# Altium footprint library 653 0xx 117 322.PcbLib: 9 footprints
Each footprint in its own frame and in the unit in brackets; x right, y up, seen from the top. Pads: shape width x height; smd on the part's side, far side on the other; paste and mask are expansions set on the pad; w line width, h text height; cw(c..) or ccw(c..) is an arc to the next point about the centre after c.
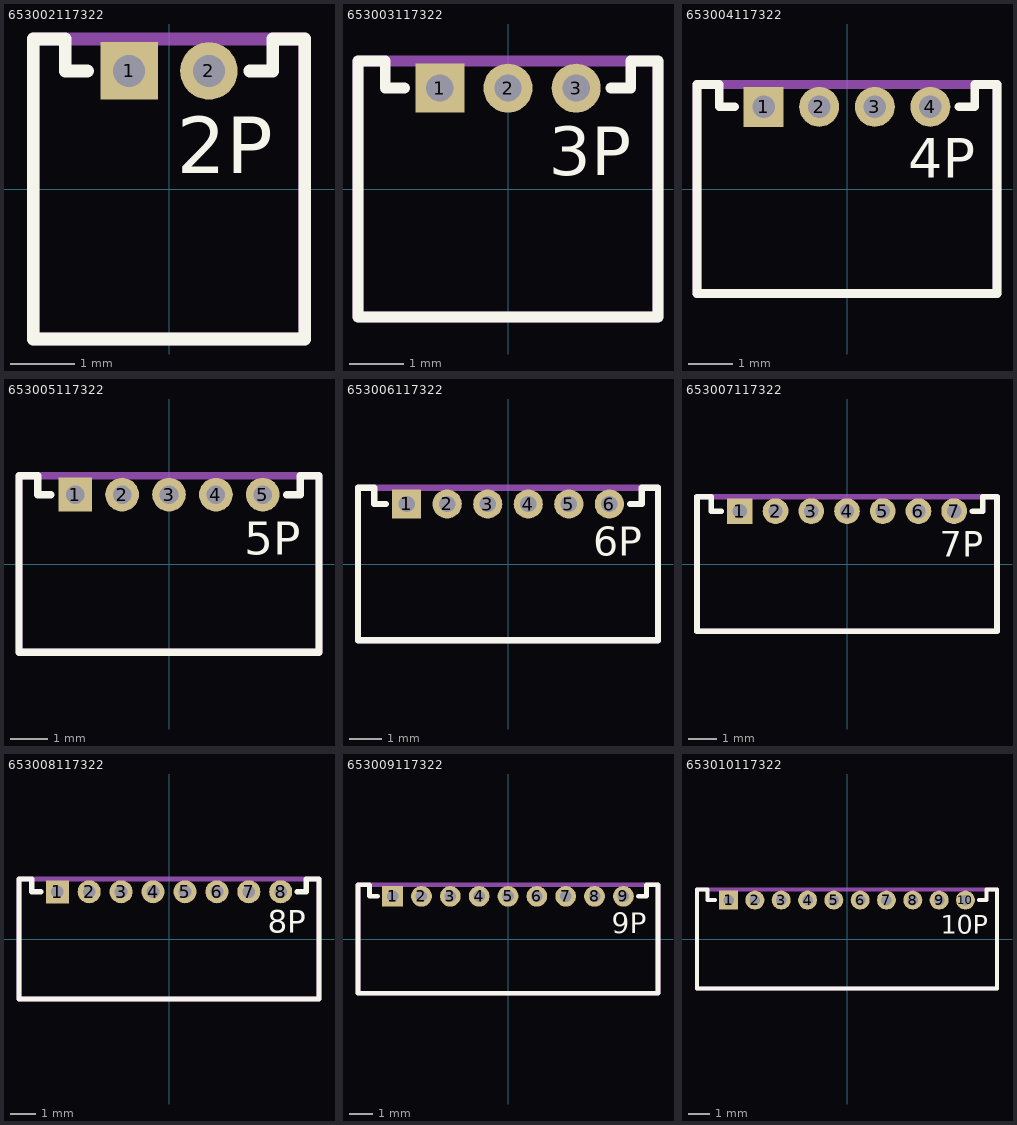
[diagram p0: the footprints below, top view; thin cyan lines are the x and y axes]

## 653002117322 [mm] "1.25mm Male Horizontal Shrouded Header, 2p"
height 3.5
pads (2):
  rect 0.9x0.9 hole 0.5: 1(-0.625,1.85)
  round 0.9 hole 0.5: 2(0.625,1.85)
Top Overlay:
  lines w0.2: -1.275,1.85 -1.625,1.85 -1.625,2.35 -2.125,2.35 -2.125,-2.35 2.125,-2.35 2.125,2.35 1.625,2.35 1.625,1.85 1.265,1.85
  text "2P" at 0.125,0.25 h0.89
Mechanical 13:
  lines w0.2: -2.125,-2.35 -2.125,2.35 2.125,2.35 2.125,-2.35 -2.125,-2.35
3D body "653002117322.stp": height 3.55, standoff -2.25, extent -2.125,-2.35 2.125,2.35

## 653003117322 [mm] "1.25mm Male Horizontal Shrouded Header, 3p"
height 3.5
pads (3):
  rect 0.9x0.9 hole 0.5: 1(-1.25,1.85)
  round 0.9 hole 0.5: 2(0,1.85) 3(1.25,1.85)
Top Overlay:
  lines w0.2: -1.9,1.85 -2.25,1.85 -2.25,2.35 -2.75,2.35 -2.75,-2.35 2.75,-2.35 2.75,2.35 2.25,2.35 2.25,1.85 1.89,1.85
  text "3P" at 0.75,0.25 h0.89
Mechanical 13:
  lines w0.2: -2.75,-2.35 -2.75,2.35 2.75,2.35 2.75,-2.35 -2.75,-2.35
3D body "653003117322.stp": height 3.55, standoff -2.25, extent -2.75,-2.35 2.75,2.35

## 653004117322 [mm] "1.25mm Male Horizontal Shrouded Header, 4p"
height 3.5
pads (4):
  rect 0.9x0.9 hole 0.5: 1(-1.875,1.85)
  round 0.9 hole 0.5: 2(-0.625,1.85) 3(0.625,1.85) 4(1.875,1.85)
Top Overlay:
  lines w0.2: -2.525,1.85 -2.875,1.85 -2.875,2.35 -3.375,2.35 -3.375,-2.35 3.375,-2.35 3.375,2.35 2.875,2.35 2.875,1.85 2.515,1.85
  text "4P" at 1.375,0.25 h0.89
Mechanical 13:
  lines w0.2: -3.375,-2.35 3.375,-2.35 3.375,2.35 -3.375,2.35 -3.375,-2.35
3D body "653004117322.stp": height 3.55, standoff -2.25, extent -3.375,-2.35 3.375,2.35

## 653005117322 [mm] "1.25mm Male Horizontal Shrouded Header, 5p"
height 3.5
pads (5):
  rect 0.9x0.9 hole 0.5: 1(-2.5,1.85)
  round 0.9 hole 0.5: 2(-1.25,1.85) 3(0,1.85) 4(1.25,1.85) 5(2.5,1.85)
Top Overlay:
  lines w0.2: -3.15,1.85 -3.5,1.85 -3.5,2.35 -4,2.35 -4,-2.35 4,-2.35 4,2.35 3.5,2.35 3.5,1.85 3.14,1.85
  text "5P" at 2,0.25 h0.89
Mechanical 13:
  lines w0.2: -4,-2.35 4,-2.35 4,2.35 -4,2.35 -4,-2.35
3D body "653005117322.stp": height 3.55, standoff -2.25, extent -4,-2.35 4,2.35

## 653006117322 [mm] "1.25mm Male Horizontal Shrouded Header, 6p"
height 3.5
pads (6):
  rect 0.9x0.9 hole 0.5: 1(-3.125,1.85)
  round 0.9 hole 0.5: 2(-1.875,1.85) 3(-0.625,1.85) 4(0.625,1.85) 5(1.875,1.85) 6(3.125,1.85)
Top Overlay:
  lines w0.2: -3.775,1.85 -4.125,1.85 -4.125,2.35 -4.625,2.35 -4.625,-2.35 4.625,-2.35 4.625,2.35 4.125,2.35 4.125,1.85 3.765,1.85
  text "6P" at 2.625,0.25 h0.89
Mechanical 13:
  lines w0.2: -4.625,-2.35 4.625,-2.35 4.625,2.35 -4.625,2.35 -4.625,-2.35
3D body "653006117322.stp": height 3.55, standoff -2.25, extent -4.625,-2.35 4.625,2.35

## 653007117322 [mm] "1.25mm Male Horizontal Shrouded Header, 7p"
height 3.5
pads (7):
  rect 0.9x0.9 hole 0.5: 1(-3.75,1.85)
  round 0.9 hole 0.5: 2(-2.5,1.85) 3(-1.25,1.85) 4(0,1.85) 5(1.25,1.85) 6(2.5,1.85) 7(3.75,1.85)
Top Overlay:
  lines w0.2: -4.4,1.85 -4.75,1.85 -4.75,2.35 -5.25,2.35 -5.25,-2.35 5.25,-2.35 5.25,2.35 4.75,2.35 4.75,1.85 4.39,1.85
  text "7P" at 3.25,0.25 h0.89
Mechanical 13:
  lines w0.2: -5.25,-2.35 5.25,-2.35 5.25,2.35 -5.25,2.35 -5.25,-2.35
3D body "653007117322.stp": height 3.55, standoff -2.25, extent -5.25,-2.35 5.25,2.35

## 653008117322 [mm] "1.25mm Male Horizontal Shrouded Header, 8p"
height 3.5
pads (8):
  rect 0.9x0.9 hole 0.5: 1(-4.375,1.85)
  round 0.9 hole 0.5: 2(-3.125,1.85) 3(-1.875,1.85) 4(-0.625,1.85) 5(0.625,1.85) 6(1.875,1.85) 7(3.125,1.85) 8(4.375,1.85)
Top Overlay:
  lines w0.2: -5.025,1.85 -5.375,1.85 -5.375,2.35 -5.875,2.35 -5.875,-2.35 5.875,-2.35 5.875,2.35 5.375,2.35 5.375,1.85 5.015,1.85
  text "8P" at 3.875,0.25 h0.89
Mechanical 13:
  lines w0.2: -5.875,-2.35 5.875,-2.35 5.875,2.35 -5.875,2.35 -5.875,-2.35
3D body "653008117322.stp": height 3.55, standoff -2.25, extent -5.875,-2.35 5.875,2.35

## 653009117322 [mm] "1.25mm Male Horizontal Shrouded Header, 9p"
height 3.5
pads (9):
  rect 0.9x0.9 hole 0.5: 1(-5,1.85)
  round 0.9 hole 0.5: 2(-3.75,1.85) 3(-2.5,1.85) 4(-1.25,1.85) 5(0,1.85) 6(1.25,1.85) 7(2.5,1.85) 8(3.75,1.85) 9(5,1.85)
Top Overlay:
  lines w0.2: -5.65,1.85 -6,1.85 -6,2.35 -6.5,2.35 -6.5,-2.35 6.5,-2.35 6.5,2.35 6,2.35 6,1.85 5.64,1.85
  text "9P" at 4.5,0.25 h0.89
Mechanical 13:
  lines w0.2: -6.5,-2.35 -6.5,2.35 6.5,2.35 6.5,-2.35 -6.5,-2.35
3D body "653009117322.stp": height 3.55, standoff -2.25, extent -6.5,-2.35 6.5,2.35

## 653010117322 [mm] "1.25mm Male Horizontal Shrouded Header, 10p"
height 3.5
pads (10):
  rect 0.9x0.9 hole 0.5: 1(-5.625,1.85)
  round 0.9 hole 0.5: 2(-4.375,1.85) 3(-3.125,1.85) 4(-1.875,1.85) 5(-0.625,1.85) 6(0.625,1.85) 7(1.875,1.85) 8(3.125,1.85) 9(4.375,1.85) 10(5.625,1.85)
Top Overlay:
  lines w0.2: -6.275,1.85 -6.625,1.85 -6.625,2.35 -7.125,2.35 -7.125,-2.35 7.125,-2.35 7.125,2.35 6.625,2.35 6.625,1.85 6.265,1.85
  text "10P" at 4.45,0.25 h0.89
Mechanical 13:
  lines w0.2: -7.125,-2.35 7.125,-2.35 7.125,2.35 -7.125,2.35 -7.125,-2.35
3D body "653010117322.stp": height 3.55, standoff -2.25, extent -7.125,-2.35 7.125,2.35